# Altium footprint library LYDZ.PcbLib: 231 footprints (part 8 of 15)
Each footprint in its own frame and in the unit in brackets; x right, y up, seen from the top. Pads: shape width x height; smd on the part's side, far side on the other; paste and mask are expansions set on the pad; w line width, h text height; cw(c..) or ccw(c..) is an arc to the next point about the centre after c.
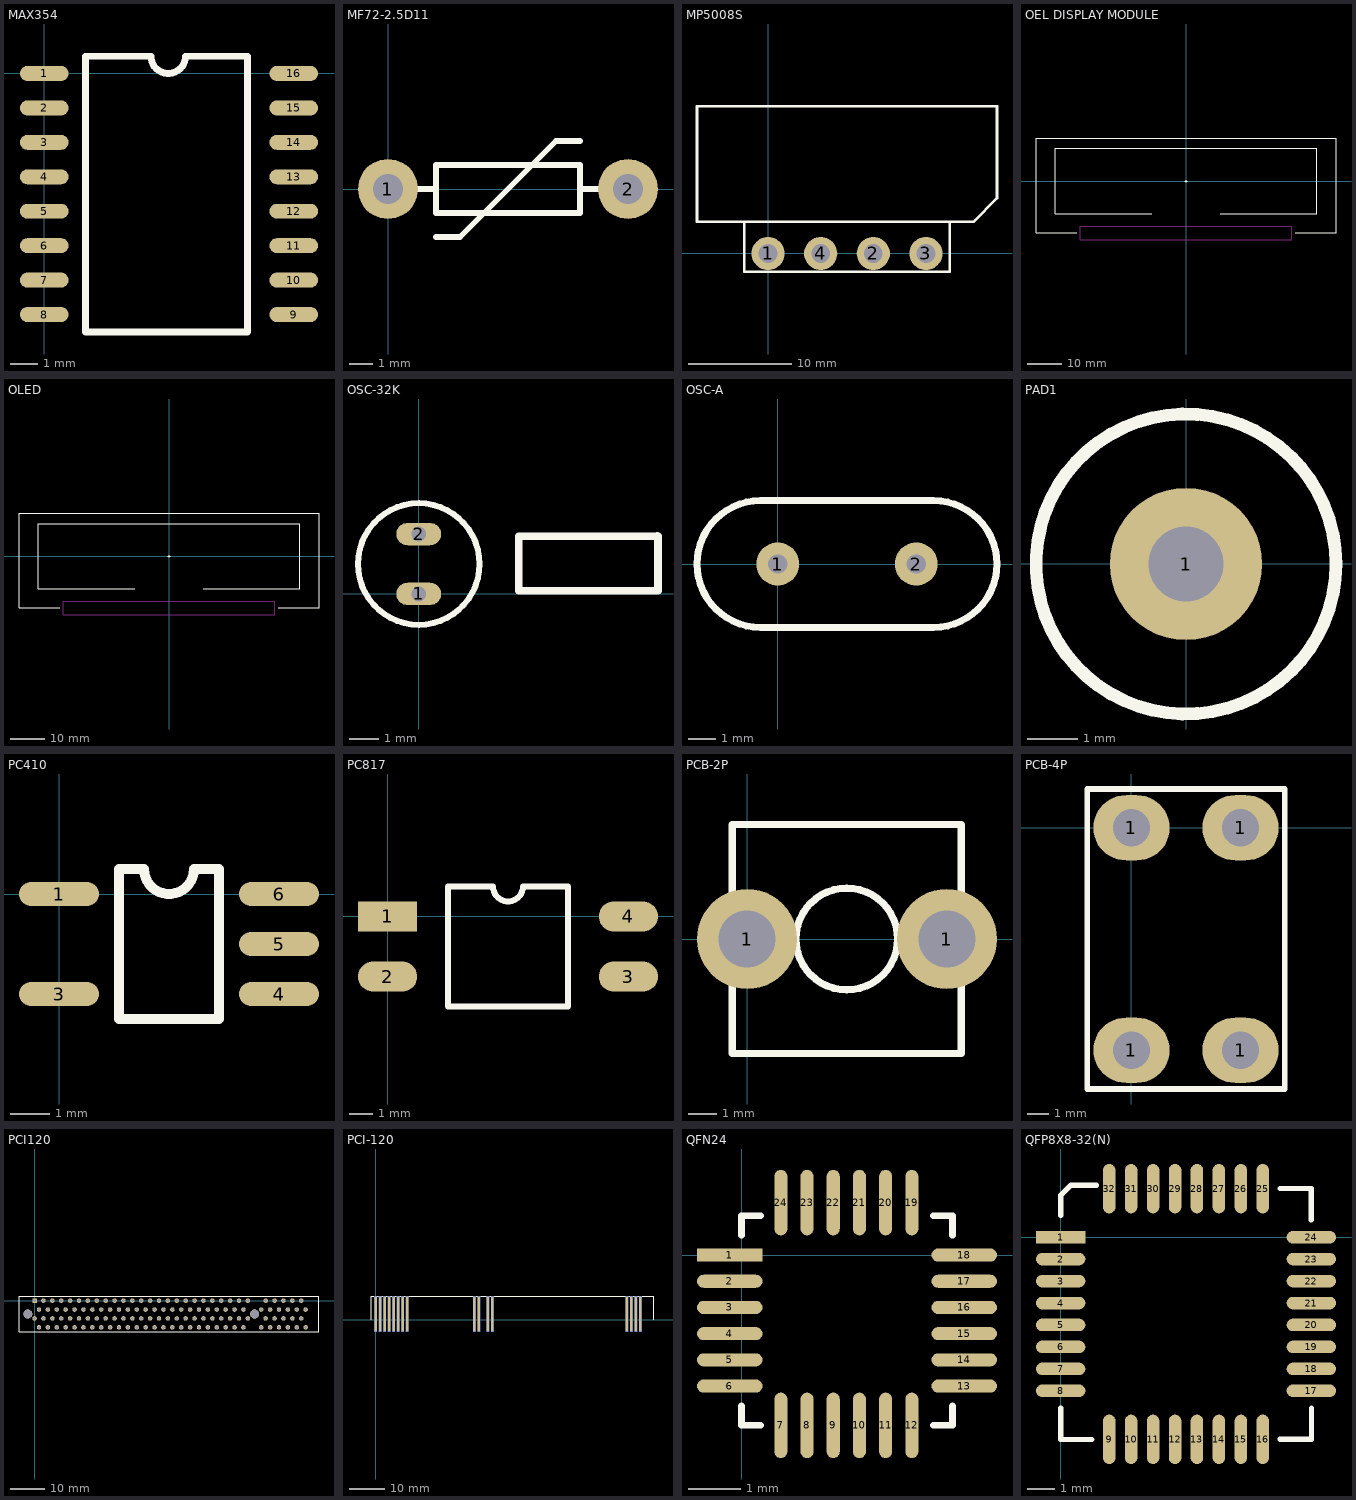
[diagram p7: the footprints below, top view; thin cyan lines are the x and y axes]

## MAX354 [mm]
pads (16):
  oval 1.8x0.55 smd: 1(0,0) 2(0,-1.27) 3(0,-2.54) 4(0,-3.81) 5(0,-5.08) 6(0,-6.35) 7(0,-7.62) 8(0,-8.89) 9(9.2,-8.89) 10(9.2,-7.62) 11(9.2,-6.35) 12(9.2,-5.08) 13(9.2,-3.81) 14(9.2,-2.54) 15(9.2,-1.27) 16(9.2,0)
Top Overlay:
  lines w0.254: 1.524,-9.525 7.5,-9.525 7.5,0.635 5.207,0.635 cw(c4.572,0.635) 3.937,0.635 1.524,0.635 1.524,-9.525

## MF72-2.5D11 [mil]
pads (2):
  round 100 hole 50: 1(0,0) 2(400,0)
Top Overlay:
  lines w10: 40,0 80,0 ; 80,-80 120,-80 280,80 320,80 ; 360,0 320,0 ; 80,0 80,40 320,40 320,0 ; 80,0 80,-40 320,-40 320,0

## MP5008S [mm]
pads (4):
  round 3.2 hole 1.8: 1(0,0) 2(10.16,0) 3(15.24,0) 4(5.08,0)
Top Overlay:
  lines w0.254: -2.286,3.048 -2.286,-1.778 -2.032,-1.778 17.526,-1.778 17.526,3.048 ; -6.858,3.048 7.62,3.048 19.812,3.048 22.098,5.334 22.098,14.224 7.62,14.224 -6.858,14.224 -6.858,3.048

## OEL DISPLAY MODULE [mil]
Top Overlay:
  lines w10: -1259.84,-598.82 -1732.28,-598.82 -1732.28,495.67 1732.28,495.67 1732.28,-598.82 1259.84,-598.82 ; -393.7,-377.56 -1511.42,-377.56 -1511.42,377.56 1511.42,377.56 1511.42,-377.56 393.7,-377.56 ; -11.81,0 11.81,0 ; 0,-11.81 0,11.81
Keep-Out Layer:
  lines w10: -1220.47,-677.56 1220.47,-677.56 1220.47,-520.08 -1220.47,-520.08 -1220.47,-677.56

## OLED [mil]
Top Overlay:
  lines w10: -1259.84,-596.46 -1732.28,-596.46 -1732.28,498.03 1732.28,498.03 1732.28,-596.46 1259.84,-596.46 ; -393.7,-377.56 -1511.42,-377.56 -1511.42,377.56 1511.42,377.56 1511.42,-377.56 393.7,-377.56 ; -11.81,0 11.81,0 ; 0,-11.81 0,11.81
Keep-Out Layer:
  lines w10: -1220.47,-677.56 -1220.47,-520.08 1220.47,-520.08 1220.47,-677.56 -1220.47,-677.56

## OSC-32K [mm]
pads (2):
  oval 1.5x0.75 hole 0.5: 1(0,0) 2(0,2)
Top Overlay:
  circle w0.2: c0,1 r2.032
  lines w0.254: 7.975,1.95 8,1.925 ; 8,1.925 3.35,1.925 3.35,0.1 8,0.1 8,1.925

## OSC-A [mil]
pads (2):
  round 62 hole 28: 1(0,0) 2(200,0)
Top Overlay:
  lines w10: -25.04,-91.5 cw(c-25.04,0) -25.04,91.5 225.04,91.5 cw(c225.04,0) 225.04,-91.5 -25.04,-91.5

## PAD1 [mil]
pads (1):
  round 120 hole 59.05: 1(-0.19,-0.02)
Top Overlay:
  circle w10: c-0.19,-0.02 r118.11

## PC410 [mil]
pads (5):
  oval 80x24 smd: 1(0,0) 3(0,-100) 4(220,-100) 5(220,-50) 6(220,0)
Top Overlay:
  lines w10: 60,-125 60,25 85,25 ccw(c110,25) 135,25 160,25 160,-125 60,-125

## PC817 [mm]
pads (4):
  rect 2.5x1.27 smd: 1(0,0)
  oval 2.5x1.27 smd: 2(0,-2.54) 3(10.16,-2.54) 4(10.16,0)
Top Overlay:
  lines w0.254: 2.54,-3.81 2.54,1.27 4.445,1.27 ccw(c5.08,1.27) 5.715,1.27 7.62,1.27 7.62,-3.81 2.54,-3.81

## PCB-2P [mm]
height 5.58
pads (2):
  round 3.5 hole 2: 1(0,0) 1(6.985,0)
Top Overlay:
  circle w0.254: c3.485,0 r1.778
  lines w0.254: -0.515,-4 7.485,-4 7.485,4 -0.515,4 -0.515,-4

## PCB-4P [mm]
pads (4):
  oval 3.5x3 hole 1.7: 1(0,-10.2) 1(0,0) 1(5,-10.2) 1(5,0)
Top Overlay:
  lines w0.254: -2.032,-11.978 7.032,-11.978 7.032,1.778 -2.032,1.778 -2.032,-11.978

## PCI120 [mil]
pads (122):
  rect 50x50 / inner round 50 / far side rect 50x50 hole 35: A1(0,0)
  round 50 hole 35: A2(50,-100) A3(100,0) A4(150,-100) A5(200,0) A6(250,-100) A7(300,0) A8(350,-100) A9(400,0) A10(450,-100) A11(500,0) A12(550,-100) A13(600,0) A14(650,-100) A15(700,0) A16(750,-100) A17(800,0) A18(850,-100) A19(900,0) A20(950,-100) A21(1000,0) A22(1050,-100) A23(1100,0) A24(1150,-100) A25(1200,0) A26(1250,-100) A27(1300,0) A28(1350,-100) A29(1400,0) A30(1450,-100) A31(1500,0) A32(1550,-100) A33(1600,0) A34(1650,-100) A35(1700,0) A36(1750,-100) A37(1800,0) A38(1850,-100) A39(1900,0) A40(1950,-100) A41(2000,0) A42(2050,-100) A43(2100,0) A44(2150,-100) A45(2200,0) A46(2250,-100) A47(2300,0) A48(2350,-100) A49(2400,0) A52(2550,-100) A53(2600,0) A54(2650,-100) A55(2700,0) A56(2750,-100) A57(2800,0) A58(2850,-100) A59(2900,0) A60(2950,-100) A61(3000,0) A62(3050,-100) B1(0,-200) B2(50,-300) B3(100,-200) B4(150,-300) B5(200,-200) B6(250,-300) B7(300,-200) B8(350,-300) B9(400,-200) B10(450,-300) B11(500,-200) B12(550,-300) B13(600,-200) B14(650,-300) B15(700,-200) B16(750,-300) B17(800,-200) B18(850,-300) B19(900,-200) B20(950,-300) B21(1000,-200) B22(1050,-300) B23(1100,-200) B24(1150,-300) B25(1200,-200) B26(1250,-300) B27(1300,-200) B28(1350,-300) B29(1400,-200) B30(1450,-300) B31(1500,-200) B32(1550,-300) B33(1600,-200) B34(1650,-300) B35(1700,-200) B36(1750,-300) B37(1800,-200) B38(1850,-300) B39(1900,-200) B40(1950,-300) B41(2000,-200) B42(2050,-300) B43(2100,-200) B44(2150,-300) B45(2200,-200) B46(2250,-300) B47(2300,-200) B48(2350,-300) B49(2400,-200) B52(2550,-300) B53(2600,-200) B54(2650,-300) B55(2700,-200) B56(2750,-300) B57(2800,-200) B58(2850,-300) B59(2900,-200) B60(2950,-300) B61(3000,-200) B62(3050,-300)
  round 100 hole 96 unplated: C1(2475,-150) C2(-75,-150)
Top Overlay:
  lines w10: -175,-350 3200,-350 3200,50 -175,50 -175,-350

## PCI-120 [mm]
pads (32):
  rect 0.7x10 smd: A1(0,1.619) A2(1.27,1.619) A3(2.54,1.619) A4(3.81,1.619) A5(5.08,1.619) A6(6.35,1.619) A7(7.62,1.619) A8(8.89,1.619) A23(27.94,1.619) A24(29.21,1.619) A26(31.75,1.619) A27(33.02,1.619) A57(71.12,1.619) A58(72.39,1.619) A59(73.66,1.619) A60(74.93,1.619)
  rect 0.7x10 smd far side: B1(0,1.619) B2(1.27,1.619) B3(2.54,1.619) B4(3.81,1.619) B5(5.08,1.619) B6(6.35,1.619) B7(7.62,1.619) B8(8.89,1.619) B23(27.94,1.619) B24(29.21,1.619) B26(31.75,1.619) B27(33.02,1.619) B57(71.12,1.619) B58(72.39,1.619) B59(73.66,1.619) B60(74.93,1.619)
Top Overlay:
  lines w0.254: -1.27,0 -1.27,6.604 78.74,6.604 78.74,0

## QFN24 [mm]
pads (24):
  rect 1.25x0.25 smd: 1(-0.225,0)
  oval 1.25x0.25 smd: 2(-0.225,-0.5) 3(-0.225,-1) 4(-0.225,-1.5) 5(-0.225,-2) 6(-0.225,-2.5) 13(4.25,-2.5) 14(4.25,-2) 15(4.25,-1.5) 16(4.25,-1) 17(4.25,-0.5) 18(4.25,0)
  oval 0.25x1.25 smd: 7(0.75,-3.25) 8(1.25,-3.25) 9(1.75,-3.25) 10(2.25,-3.25) 11(2.75,-3.25) 12(3.25,-3.25) 19(3.25,1) 20(2.75,1) 21(2.25,1) 22(1.75,1) 23(1.25,1) 24(0.75,1)
Top Overlay:
  lines w0.127: 0,-2.881 0,-3.25 0.369,-3.25 ; 0,0.381 0,0.75 0.369,0.75 ; 3.656,-3.25 4.025,-3.25 4.025,-2.881 ; 3.656,0.75 4.025,0.75 4.025,0.381

## QFP8X8-32(N) [mm]
pads (32):
  rect 1.8x0.457 smd: 1(0,0)
  oval 1.8x0.457 smd: 2(0,-0.8) 3(0,-1.6) 4(0,-2.4) 5(0,-3.2) 6(0,-4) 7(0,-4.8) 8(0,-5.6) 17(9.144,-5.6) 18(9.144,-4.8) 19(9.144,-4) 20(9.144,-3.2) 21(9.144,-2.4) 22(9.144,-1.6) 23(9.144,-0.8) 24(9.144,0)
  oval 0.457x1.8 smd: 9(1.772,-7.372) 10(2.572,-7.372) 11(3.372,-7.372) 12(4.172,-7.372) 13(4.972,-7.372) 14(5.772,-7.372) 15(6.572,-7.372) 16(7.372,-7.372) 25(7.372,1.772) 26(6.572,1.772) 27(5.772,1.772) 28(4.972,1.772) 29(4.172,1.772) 30(3.372,1.772) 31(2.572,1.772) 32(1.772,1.772)
Top Overlay:
  lines w0.2: 0,-6.235 0,-7.378 1.143,-7.378 ; 0,0.8 0,1.524 0.381,1.905 1.3,1.905 ; 8.001,1.778 9.144,1.778 9.144,0.635 ; 8.007,-7.372 9.15,-7.372 9.15,-6.229